# Altium footprint library PcbLib1.PcbLib: 4 footprints
Each footprint in its own frame and in the unit in brackets; x right, y up, seen from the top. Pads: shape width x height; smd on the part's side, far side on the other; paste and mask are expansions set on the pad; w line width, h text height; cw(c..) or ccw(c..) is an arc to the next point about the centre after c.
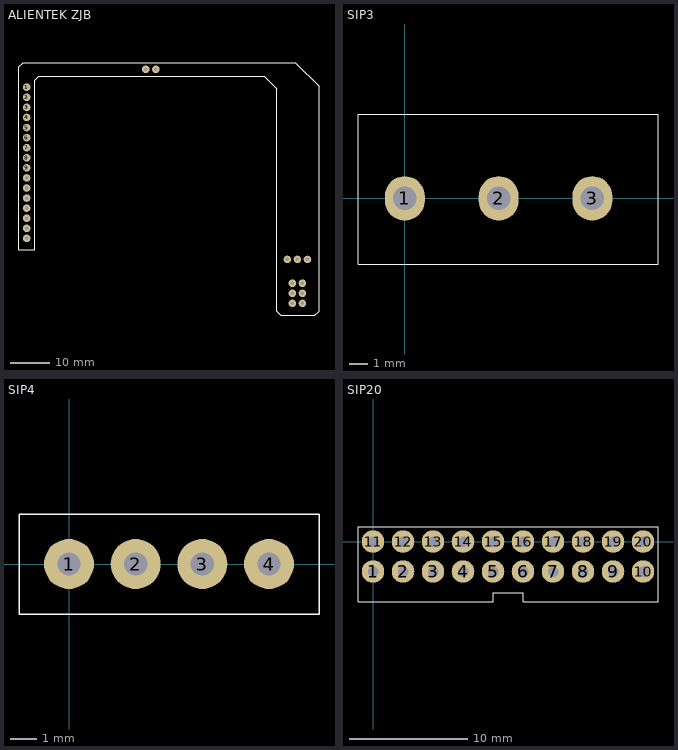
[diagram p0: the footprints below, top view; thin cyan lines are the x and y axes]

## ALIENTEK ZJB [mm]
pads (27):
  round 1.905 hole 0.889: 1(7,91) 2(7,88.45) 3(7,85.91) 4(7,83.375) 5(7,80.83) 6(7,78.29) 7(7,75.75) 8(7,73.21) 9(7,70.67) 10(7,68.13) 11(7,65.59) 12(7,63.05) 13(7,60.51) 14(7,57.97) 15(7,55.43) 16(7,52.89) 17(37,95.5) 18(39.54,95.5) 19(76.5,36.5) 20(73.96,36.5) 21(76.5,39.04) 22(73.96,39.04) 23(76.5,41.58) 24(73.96,41.58) 25(77.775,47.58) 26(75.235,47.58) 27(72.695,47.58)
Top Overlay:
  lines w0.051: 5.05,50 7,50 8.975,50 8.975,92.725 10,93.75 66.925,93.75 70.05,90.625 70.05,34.525 71.075,33.5 79.65,33.5 80.675,34.525 80.675,91.225 74.725,97.175 6.075,97.175 5.05,96.15 5.05,50

## SIP3 [mil]
pads (3):
  oval 85x95 hole 50: 1(0,0) 2(200,0) 3(400,0)
Top Overlay:
  lines w2: -100,-140 540,-140 540,180 -100,180 -100,-140

## SIP4 [mil]
pads (4):
  round 75 hole 35: 1(0,0) 2(100,0) 3(200,0) 4(300,0)
Top Overlay:
  lines w2: -75,-75 375,-75 375,75 -75,75 -75,-75

## SIP20 [mil]
pads (20):
  round 75 hole 35: 1(0,-100) 2(100,-100) 3(200,-100) 4(300,-100) 5(400,-100) 6(500,-100) 7(600,-100) 8(700,-100) 9(800,-100) 10(900,-100) 11(0,0) 12(100,0) 13(200,0) 14(300,0) 15(400,0) 16(500,0) 17(600,0) 18(700,0) 19(800,0) 20(900,0)
Top Overlay:
  lines w2: -50,-200 400,-200 400,-170 500,-170 500,-200 950,-200 950,-150 950,50 -50,50 -50,-150 -50,-200